# Altium schematic symbol library SCH - POWER - SWITCHMODE - TI TPS65266RHB.SchLib: 1 symbol
Pins are listed as number, name and electrical type; pins without a type are passive.

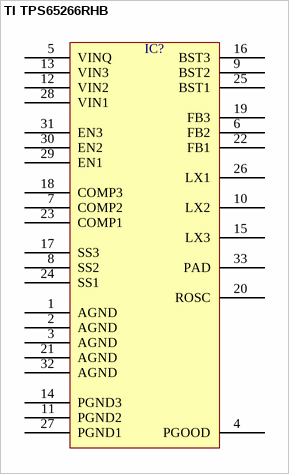
[diagram p0: symbol TI TPS65266RHB]

## TI TPS65266RHB
designator IC?  (value not drawn)
pins: 1 AGND, 2 AGND, 3 AGND, 4 PGOOD, 5 VINQ, 6 FB2, 7 COMP2, 8 SS2, 9 BST2, 10 LX2, 11 PGND2, 12 VIN2, 13 VIN3, 14 PGND3, 15 LX3, 16 BST3, 17 SS3, 18 COMP3, 19 FB3, 20 ROSC, 21 AGND, 22 FB1, 23 COMP1, 24 SS1, 25 BST1, 26 LX1, 27 PGND1, 28 VIN1, 29 EN1, 30 EN2, 31 EN3, 32 AGND, 33 PAD